# Altium integrated library Passive.IntLib: 14 symbols
Pins are listed as number, name and electrical type; pins without a type are passive.

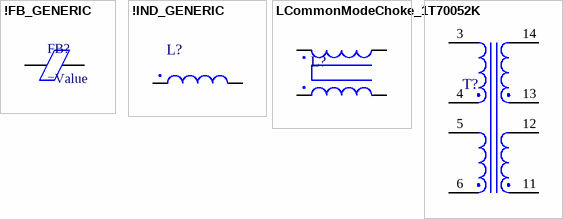
[diagram p0: symbols !FB_GENERIC to T70052K]

## !FB_GENERIC
designator FB?
pins: 1, 2

## !IND_GENERIC
designator L?
pins: 1, 2

## LCommonModeChoke_1
designator L?
pins: 1, 2, 3, 4

## T70052K
designator T?
pins: 3, 4, 5, 6, 11, 12, 13, 14


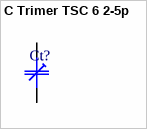
[diagram p1: symbol C Trimer TSC 6 2-5p]

## C Trimer TSC 6 2-5p
designator Ct?
TH 6mm    2-5p   NP0     Q500 200V
pins: 1, 2
1 alternate drawing of the same symbol


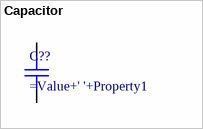
[diagram p2: symbol Capacitor]

## Capacitor
designator C??
pins: 1, 2
1 alternate drawing of the same symbol


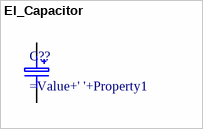
[diagram p3: symbol El_Capacitor]

## El_Capacitor
designator C??
pins: 1, 2
1 alternate drawing of the same symbol


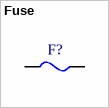
[diagram p4: symbol Fuse]

## Fuse
designator F?
pins: 1, 2
1 alternate drawing of the same symbol


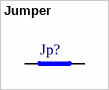
[diagram p5: symbol Jumper]

## Jumper
designator Jp?  (net tie, no BOM)
footprint nettie1
pins: 1, 2
1 alternate drawing of the same symbol


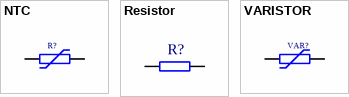
[diagram p6: symbols NTC to VARISTOR]

## NTC
designator R?
pins: 1, 2
1 alternate drawing of the same symbol

## Resistor
designator R?
pins: 1, 2
1 alternate drawing of the same symbol

## VARISTOR
designator VAR?
pins: 1, 2
1 alternate drawing of the same symbol


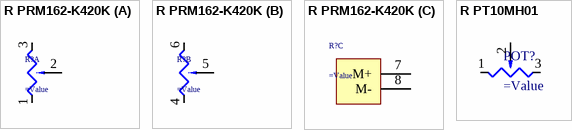
[diagram p7: symbols R PRM162-K420K to R PT10MH01]

## R PRM162-K420K
designator R?
Bourns 16 mm Motorized Potentiometer
part A pins: 1, 2, 3
part B pins: 4, 5, 6
part C pins: 7 M+, 8 M-
1 alternate drawing of the same symbol

## R PT10MH01
designator POT?
pins: 1 A, 2 S, 3 E